# Altium integrated library TI_Logic_Flip-Flop,Latch,Register.IntLib: 2598 symbols (part 58 of 122)
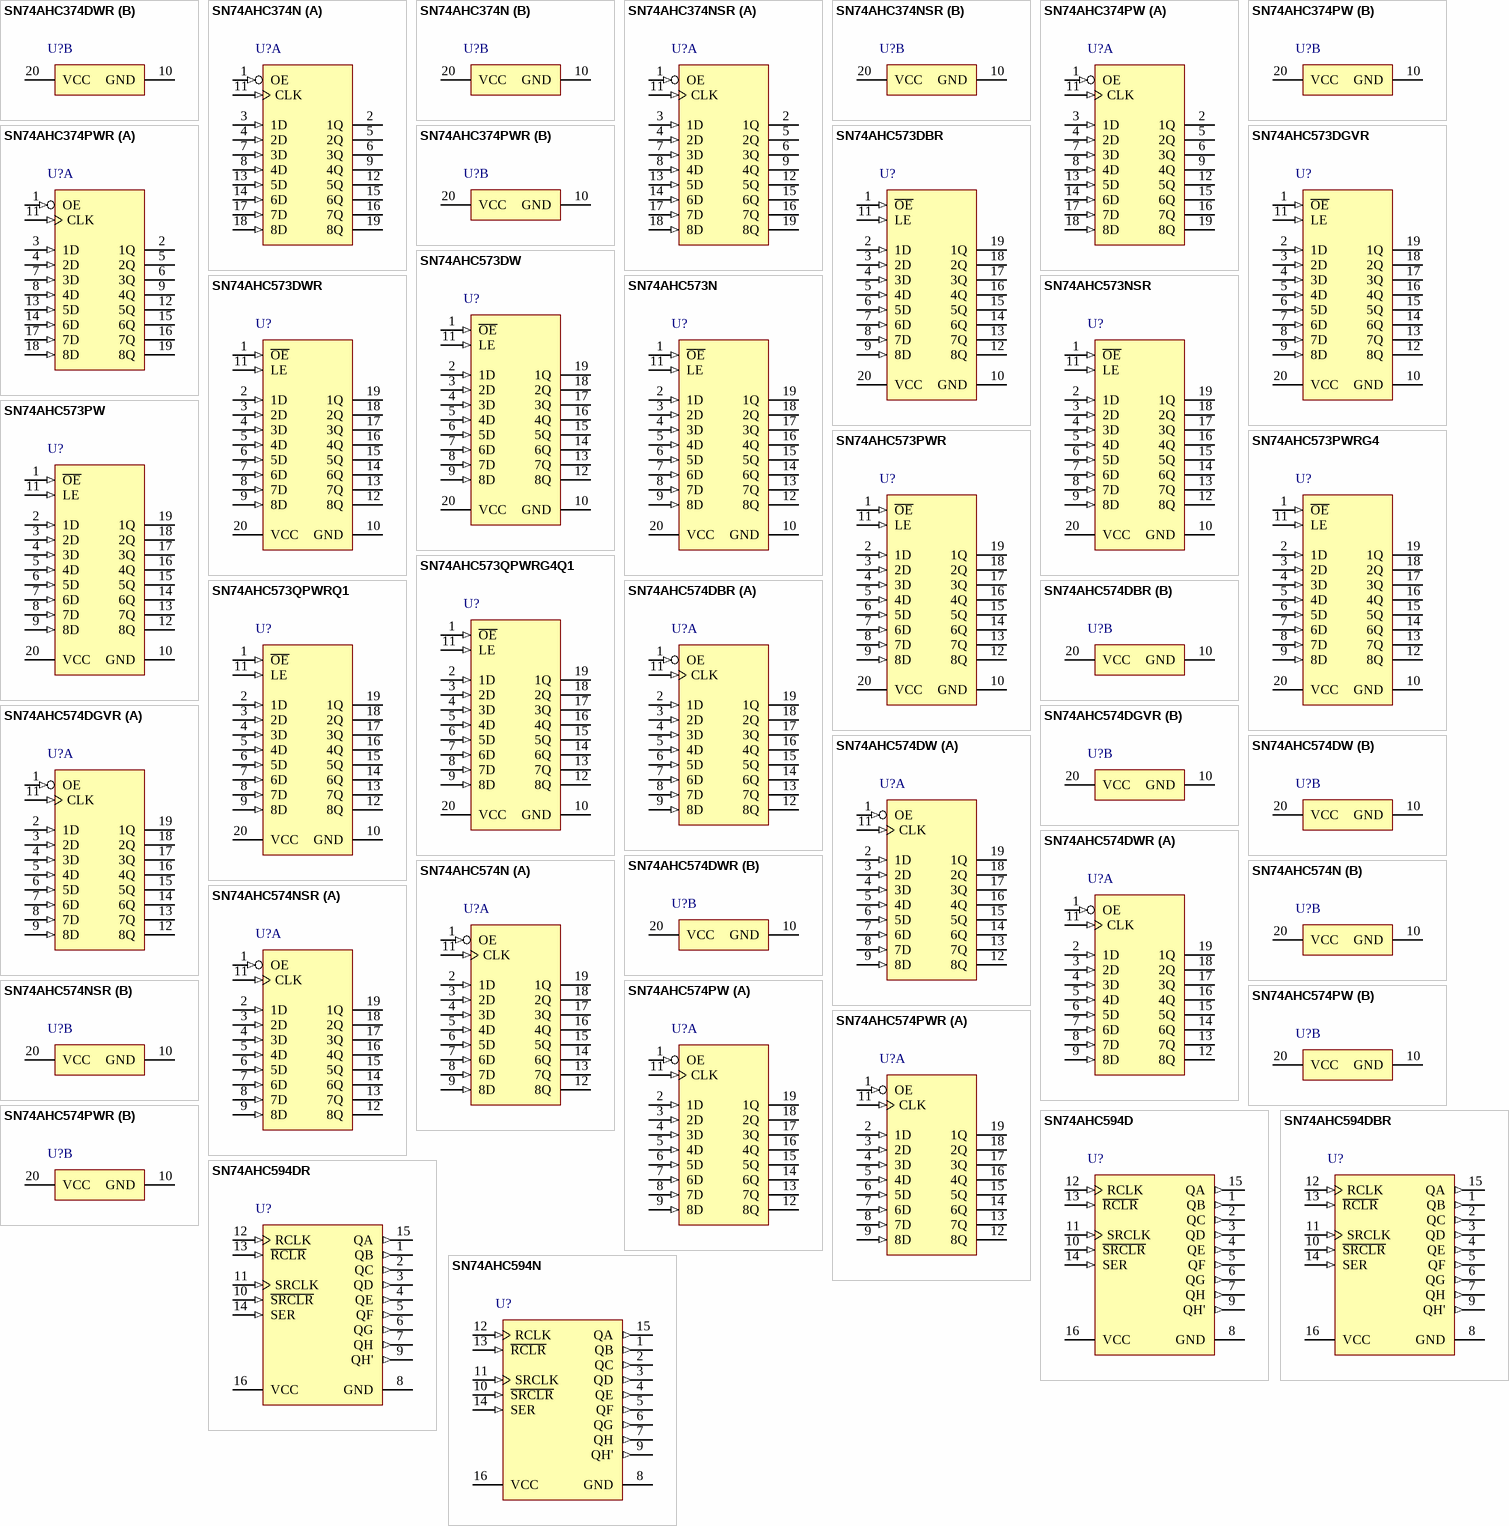
[diagram p196: symbols SN74AHC374DWR to SN74AHC594N]

## SN74AHC574NSR
designator U?
Octal Edge-Triggered D-Type Flip-Flops With 3-State Outputs, NS0020A, LARGE T&R; Generic Part Number: SN74AHC574; Manufacturer: Texas Instruments; PartNumber: SN74AHC574NSR; VCC(Min)(V): 2; VCC(Max)(V): 5.5; Output Type: CMOS; ICC @ Nom Voltage(Max)(mA): 0.04; Bits(#): 8; F @ Nom Voltage(Max)(Mhz): 110; Rating: Catalog; Technology Family: AHC; Voltage(Nom)(V): 3.3,5; Schmitt Trigger: No; Output Drive (IOL/IOH)(Max)(mA): 50/-50; Output Logic: Non-inverted; 3-State Output: Yes; tpd @ Nom Voltage(Max)(ns): 19,12; DatasheetVersion: SCLS244J; PackageReference: NS0020A; Supplier 1: Digi-Key; Supplier Part Number 1: SN74AHC574NSR-ND; Supplier 2: Mouser; Supplier Part Number 2: 595-SN74AHC574NSR; Input Type: CMOS; Operating Temperature Range(C): -40 to 125,-40 to 85; ComponentLink1Description: Manufacturer URL; ComponentLink1URL: http://www.ti.com/; ComponentLink2Description: Datasheet; ComponentLink2URL: http://www.ti.com/lit/ds/symlink/sn74ahc574.pdf; ComponentLink3Description: Package Specification; ComponentLink3URL: http://www.ti.com/lit/ml/msop002a/msop002a.pdf
footprint NS0020A_N (SOIC,20-Leads,Body 12.9x5.6mm,Pitch 1.27mm,IPC Medium Density)
footprint NS0020A_M (SOIC,20-Leads,Body 12.9x5.6mm,Pitch 1.27mm,IPC Low Density)
footprint NS0020A_L (SOIC,20-Leads,Body 12.9x5.6mm,Pitch 1.27mm,IPC High Density)
part A pins: 1 OE (in), 2 1D (in), 3 2D (in), 4 3D (in), 5 4D (in), 6 5D (in), 7 6D (in), 8 7D (in), 9 8D (in), 11 CLK (in), 12 8Q (hiz), 13 7Q (hiz), 14 6Q (hiz), 15 5Q (hiz), 16 4Q (hiz), 17 3Q (hiz), 18 2Q (hiz), 19 1Q (hiz)
part B pins: 10 GND (power), 20 VCC (power)

## SN74AHC574PW
designator U?
Octal Edge-Triggered D-Type Flip-Flops With 3-State Outputs, PW0020A, TUBE; Generic Part Number: SN74AHC574; Manufacturer: Texas Instruments; PartNumber: SN74AHC574PW; VCC(Min)(V): 2; VCC(Max)(V): 5.5; Output Type: CMOS; ICC @ Nom Voltage(Max)(mA): 0.04; Bits(#): 8; F @ Nom Voltage(Max)(Mhz): 110; Rating: Catalog; Technology Family: AHC; Voltage(Nom)(V): 3.3,5; Schmitt Trigger: No; Output Drive (IOL/IOH)(Max)(mA): 50/-50; Output Logic: Non-inverted; 3-State Output: Yes; tpd @ Nom Voltage(Max)(ns): 19,12; DatasheetVersion: SCLS244J; PackageReference: PW0020A; Supplier 1: Digi-Key; Supplier Part Number 1: 296-33680-5-ND; Supplier 2: Farnell; Supplier Part Number 2: 9590595; Supplier 3: Newark; Supplier Part Number 3: 98K0274; Supplier 4: Mouser; Supplier Part Number 4: 595-SN74AHC574PW; Input Type: CMOS; Operating Temperature Range(C): -40 to 125,-40 to 85; Code_JEDEC: MO-153; ComponentLink1Description: Manufacturer URL; ComponentLink1URL: http://www.ti.com/; ComponentLink2Description: Datasheet; ComponentLink2URL: http://www.ti.com/lit/ds/symlink/sn74ahc574.pdf; ComponentLink3Description: Package Specification; ComponentLink3URL: http://www.ti.com/lit/ml/mpds362/mpds362.pdf
footprint PW0020A_N (SOP, 20-Leads, Body 6.6x4.5mm, Pitch 0.65mm, IPC Medium Density)
footprint PW0020A_M (SOP, 20-Leads, Body 6.6x4.5mm, Pitch 0.65mm, IPC Low Density)
footprint PW0020A_L (SOP, 20-Leads, Body 6.6x4.5mm, Pitch 0.65mm, IPC High Density)
part A pins: 1 OE (in), 2 1D (in), 3 2D (in), 4 3D (in), 5 4D (in), 6 5D (in), 7 6D (in), 8 7D (in), 9 8D (in), 11 CLK (in), 12 8Q (hiz), 13 7Q (hiz), 14 6Q (hiz), 15 5Q (hiz), 16 4Q (hiz), 17 3Q (hiz), 18 2Q (hiz), 19 1Q (hiz)
part B pins: 10 GND (power), 20 VCC (power)

## SN74AHC574PWR
designator U?
Octal Edge-Triggered D-Type Flip-Flops With 3-State Outputs, PW0020A, LARGE T&R; Generic Part Number: SN74AHC574; Manufacturer: Texas Instruments; PartNumber: SN74AHC574PWR; VCC(Min)(V): 2; VCC(Max)(V): 5.5; Output Type: CMOS; ICC @ Nom Voltage(Max)(mA): 0.04; Bits(#): 8; F @ Nom Voltage(Max)(Mhz): 110; Rating: Catalog; Technology Family: AHC; Voltage(Nom)(V): 3.3,5; Schmitt Trigger: No; Output Drive (IOL/IOH)(Max)(mA): 50/-50; Output Logic: Non-inverted; 3-State Output: Yes; tpd @ Nom Voltage(Max)(ns): 19,12; DatasheetVersion: SCLS244J; PackageReference: PW0020A; Supplier 1: Digi-Key; Supplier Part Number 1: 296-4617-2-ND; Supplier 2: Digi-Key; Supplier Part Number 2: 296-4617-1-ND; Supplier 3: Digi-Key; Supplier Part Number 3: 296-4617-6-ND; Supplier 4: Mouser; Supplier Part Number 4: 595-SN74AHC574PWR; Input Type: CMOS; Operating Temperature Range(C): -40 to 125,-40 to 85; Code_JEDEC: MO-153; ComponentLink1Description: Manufacturer URL; ComponentLink1URL: http://www.ti.com/; ComponentLink2Description: Datasheet; ComponentLink2URL: http://www.ti.com/lit/ds/symlink/sn74ahc574.pdf; ComponentLink3Description: Package Specification; ComponentLink3URL: http://www.ti.com/lit/ml/mpds362/mpds362.pdf
footprint PW0020A_N (SOP, 20-Leads, Body 6.6x4.5mm, Pitch 0.65mm, IPC Medium Density)
footprint PW0020A_M (SOP, 20-Leads, Body 6.6x4.5mm, Pitch 0.65mm, IPC Low Density)
footprint PW0020A_L (SOP, 20-Leads, Body 6.6x4.5mm, Pitch 0.65mm, IPC High Density)
part A pins: 1 OE (in), 2 1D (in), 3 2D (in), 4 3D (in), 5 4D (in), 6 5D (in), 7 6D (in), 8 7D (in), 9 8D (in), 11 CLK (in), 12 8Q (hiz), 13 7Q (hiz), 14 6Q (hiz), 15 5Q (hiz), 16 4Q (hiz), 17 3Q (hiz), 18 2Q (hiz), 19 1Q (hiz)
part B pins: 10 GND (power), 20 VCC (power)

## SN74AHC594D
designator U?
8-Bit Shift Registers With Output Registers, D0016A, TUBE; Generic Part Number: SN74AHC594; Manufacturer: Texas Instruments; PartNumber: SN74AHC594D; Technology Family: AHC; VCC(Min)(V): 2; VCC(Max)(V): 5.5; Voltage(Nom)(V): 3.3, 5; F @ Nom Voltage(Max)(Mhz): 110; ICC @ Nom Voltage(Max)(mA): 0.04; tpd @ Nom Voltage(Max)(ns): 13.9, 10.1; Output Drive (IOL/IOH)(Max)(mA): 50/-50; Input Type: CMOS; 3-State Output: No; Rating: Catalog; Bits: 8; DatasheetVersion: SCLS423G; PackageReference: D0016A; Output Type: CMOS; Operating Temperature Range(C): -40 to 125; Code_JEDEC: MS-012 variation AC; ComponentLink1Description: Manufacturer URL; ComponentLink1URL: http://www.ti.com/; ComponentLink2Description: Datasheet; ComponentLink2URL: http://www.ti.com/lit/ds/symlink/sn74ahc594.pdf; ComponentLink3Description: Package Specification; ComponentLink3URL: http://www.ti.com/lit/ml/mpds178g/mpds178g.pdf
footprint D0016A_N (SOIC, 16-Leads, Body 10x4mm, Pitch 1.27mm, IPC Medium Density)
footprint D0016A_M (SOIC, 16-Leads, Body 10x4mm, Pitch 1.27mm, IPC Low Density)
footprint D0016A_L (SOIC, 16-Leads, Body 10x4mm, Pitch 1.27mm, IPC High Density)
pins: 1 QB (out) "QB Output", 2 QC (out) "QC Output", 3 QD (out) "QD Output", 4 QE (out) "QE Output", 5 QF (out) "QF Output", 6 QG (out) "QG Output", 7 QH (out) "QH Output", 8 GND (power) "Ground Pin", 9 QH' (out) "QH' Output", 10 ~{SRCLR} (in) "S\R\C\L\R\ Input", 11 SRCLK (in) "SRCLK Input", 12 RCLK (in) "RCLK Input", 13 ~{RCLR} (in) "R\C\L\R\ Input", 14 SER (in) "SER Input", 15 QA (out) "QA Output", 16 VCC (power) "Power pin"

## SN74AHC594DBR
designator U?
8-Bit Shift Registers With Output Registers, DB0016A, LARGE T&R; Generic Part Number: SN74AHC594; Manufacturer: Texas Instruments; PartNumber: SN74AHC594DBR; Technology Family: AHC; VCC(Min)(V): 2; VCC(Max)(V): 5.5; Voltage(Nom)(V): 3.3, 5; F @ Nom Voltage(Max)(Mhz): 110; ICC @ Nom Voltage(Max)(mA): 0.04; tpd @ Nom Voltage(Max)(ns): 13.9, 10.1; Output Drive (IOL/IOH)(Max)(mA): 50/-50; Input Type: CMOS; 3-State Output: No; Rating: Catalog; DatasheetVersion: SCLS423G; PackageReference: DB0016A; Output Type: CMOS; Operating Temperature Range(C): -40 to 125; Code_JEDEC: MO-150; ComponentLink1Description: Manufacturer URL; ComponentLink1URL: http://www.ti.com/; ComponentLink2Description: Datasheet; ComponentLink2URL: http://www.ti.com/lit/ds/symlink/sn74ahc594.pdf; ComponentLink3Description: Package Specification; ComponentLink3URL: http://www.ti.com/lit/ml/mpds507/mpds507.pdf
footprint DB0016A_N (SOP, 16-Leads, Body 5.6x6.5mm, Pitch 0.65mm, IPC Medium Density)
footprint DB0016A_M (SOP, 16-Leads, Body 5.6x6.5mm, Pitch 0.65mm, IPC Low Density)
footprint DB0016A_L (SOP, 16-Leads, Body 5.6x6.5mm, Pitch 0.65mm, IPC High Density)
pins: 1 QB (out) "QB Output", 2 QC (out) "QC Output", 3 QD (out) "QD Output", 4 QE (out) "QE Output", 5 QF (out) "QF Output", 6 QG (out) "QG Output", 7 QH (out) "QH Output", 8 GND (power) "Ground Pin", 9 QH' (out) "QH' Output", 10 ~{SRCLR} (in) "S\R\C\L\R\ Input", 11 SRCLK (in) "SRCLK Input", 12 RCLK (in) "RCLK Input", 13 ~{RCLR} (in) "R\C\L\R\ Input", 14 SER (in) "SER Input", 15 QA (out) "QA Output", 16 VCC (power) "Power pin"

## SN74AHC594DR
designator U?
8-Bit Shift Registers With Output Registers, D0016A, LARGE T&R; Generic Part Number: SN74AHC594; Manufacturer: Texas Instruments; PartNumber: SN74AHC594DR; Technology Family: AHC; VCC(Min)(V): 2; VCC(Max)(V): 5.5; Voltage(Nom)(V): 3.3, 5; F @ Nom Voltage(Max)(Mhz): 110; ICC @ Nom Voltage(Max)(mA): 0.04; tpd @ Nom Voltage(Max)(ns): 13.9, 10.1; Output Drive (IOL/IOH)(Max)(mA): 50/-50; Input Type: CMOS; 3-State Output: No; Rating: Catalog; Bits: 8; DatasheetVersion: SCLS423G; PackageReference: D0016A; Output Type: CMOS; Operating Temperature Range(C): -40 to 125; Code_JEDEC: MS-012 variation AC; ComponentLink1Description: Manufacturer URL; ComponentLink1URL: http://www.ti.com/; ComponentLink2Description: Datasheet; ComponentLink2URL: http://www.ti.com/lit/ds/symlink/sn74ahc594.pdf; ComponentLink3Description: Package Specification; ComponentLink3URL: http://www.ti.com/lit/ml/mpds178g/mpds178g.pdf
footprint D0016A_N (SOIC, 16-Leads, Body 10x4mm, Pitch 1.27mm, IPC Medium Density)
footprint D0016A_M (SOIC, 16-Leads, Body 10x4mm, Pitch 1.27mm, IPC Low Density)
footprint D0016A_L (SOIC, 16-Leads, Body 10x4mm, Pitch 1.27mm, IPC High Density)
pins: 1 QB (out) "QB Output", 2 QC (out) "QC Output", 3 QD (out) "QD Output", 4 QE (out) "QE Output", 5 QF (out) "QF Output", 6 QG (out) "QG Output", 7 QH (out) "QH Output", 8 GND (power) "Ground Pin", 9 QH' (out) "QH' Output", 10 ~{SRCLR} (in) "S\R\C\L\R\ Input", 11 SRCLK (in) "SRCLK Input", 12 RCLK (in) "RCLK Input", 13 ~{RCLR} (in) "R\C\L\R\ Input", 14 SER (in) "SER Input", 15 QA (out) "QA Output", 16 VCC (power) "Power pin"

## SN74AHC594N
designator U?
8-Bit Shift Registers With Output Registers, N0016A, TUBE; Generic Part Number: SN74AHC594; Manufacturer: Texas Instruments; PartNumber: SN74AHC594N; Technology Family: AHC; VCC(Min)(V): 2; VCC(Max)(V): 5.5; Voltage(Nom)(V): 3.3, 5; F @ Nom Voltage(Max)(Mhz): 110; ICC @ Nom Voltage(Max)(mA): 0.04; tpd @ Nom Voltage(Max)(ns): 13.9, 10.1; Output Drive (IOL/IOH)(Max)(mA): 50/-50; Input Type: CMOS; 3-State Output: No; Rating: Catalog; Bits: 8; DatasheetVersion: SCLS423G; PackageReference: N0016A; Output Type: CMOS; Operating Temperature Range(C): -40 to 125; Code_JEDEC: MS-001; ComponentLink1Description: Manufacturer URL; ComponentLink1URL: http://www.ti.com/; ComponentLink2Description: Datasheet; ComponentLink2URL: http://www.ti.com/lit/ds/symlink/sn74ahc594.pdf; ComponentLink3Description: Package Specification; ComponentLink3URL: http://www.ti.com/lit/ml/mpdi002c/mpdi002c.pdf
footprint N0016A (DIP, 16-Leads, Body 19.7x6.6mm, Pitch 2.54mm)
pins: 1 QB (out) "QB Output", 2 QC (out) "QC Output", 3 QD (out) "QD Output", 4 QE (out) "QE Output", 5 QF (out) "QF Output", 6 QG (out) "QG Output", 7 QH (out) "QH Output", 8 GND (power) "Ground Pin", 9 QH' (out) "QH' Output", 10 ~{SRCLR} (in) "S\R\C\L\R\ Input", 11 SRCLK (in) "SRCLK Input", 12 RCLK (in) "RCLK Input", 13 ~{RCLR} (in) "R\C\L\R\ Input", 14 SER (in) "SER Input", 15 QA (out) "QA Output", 16 VCC (power) "Power pin"

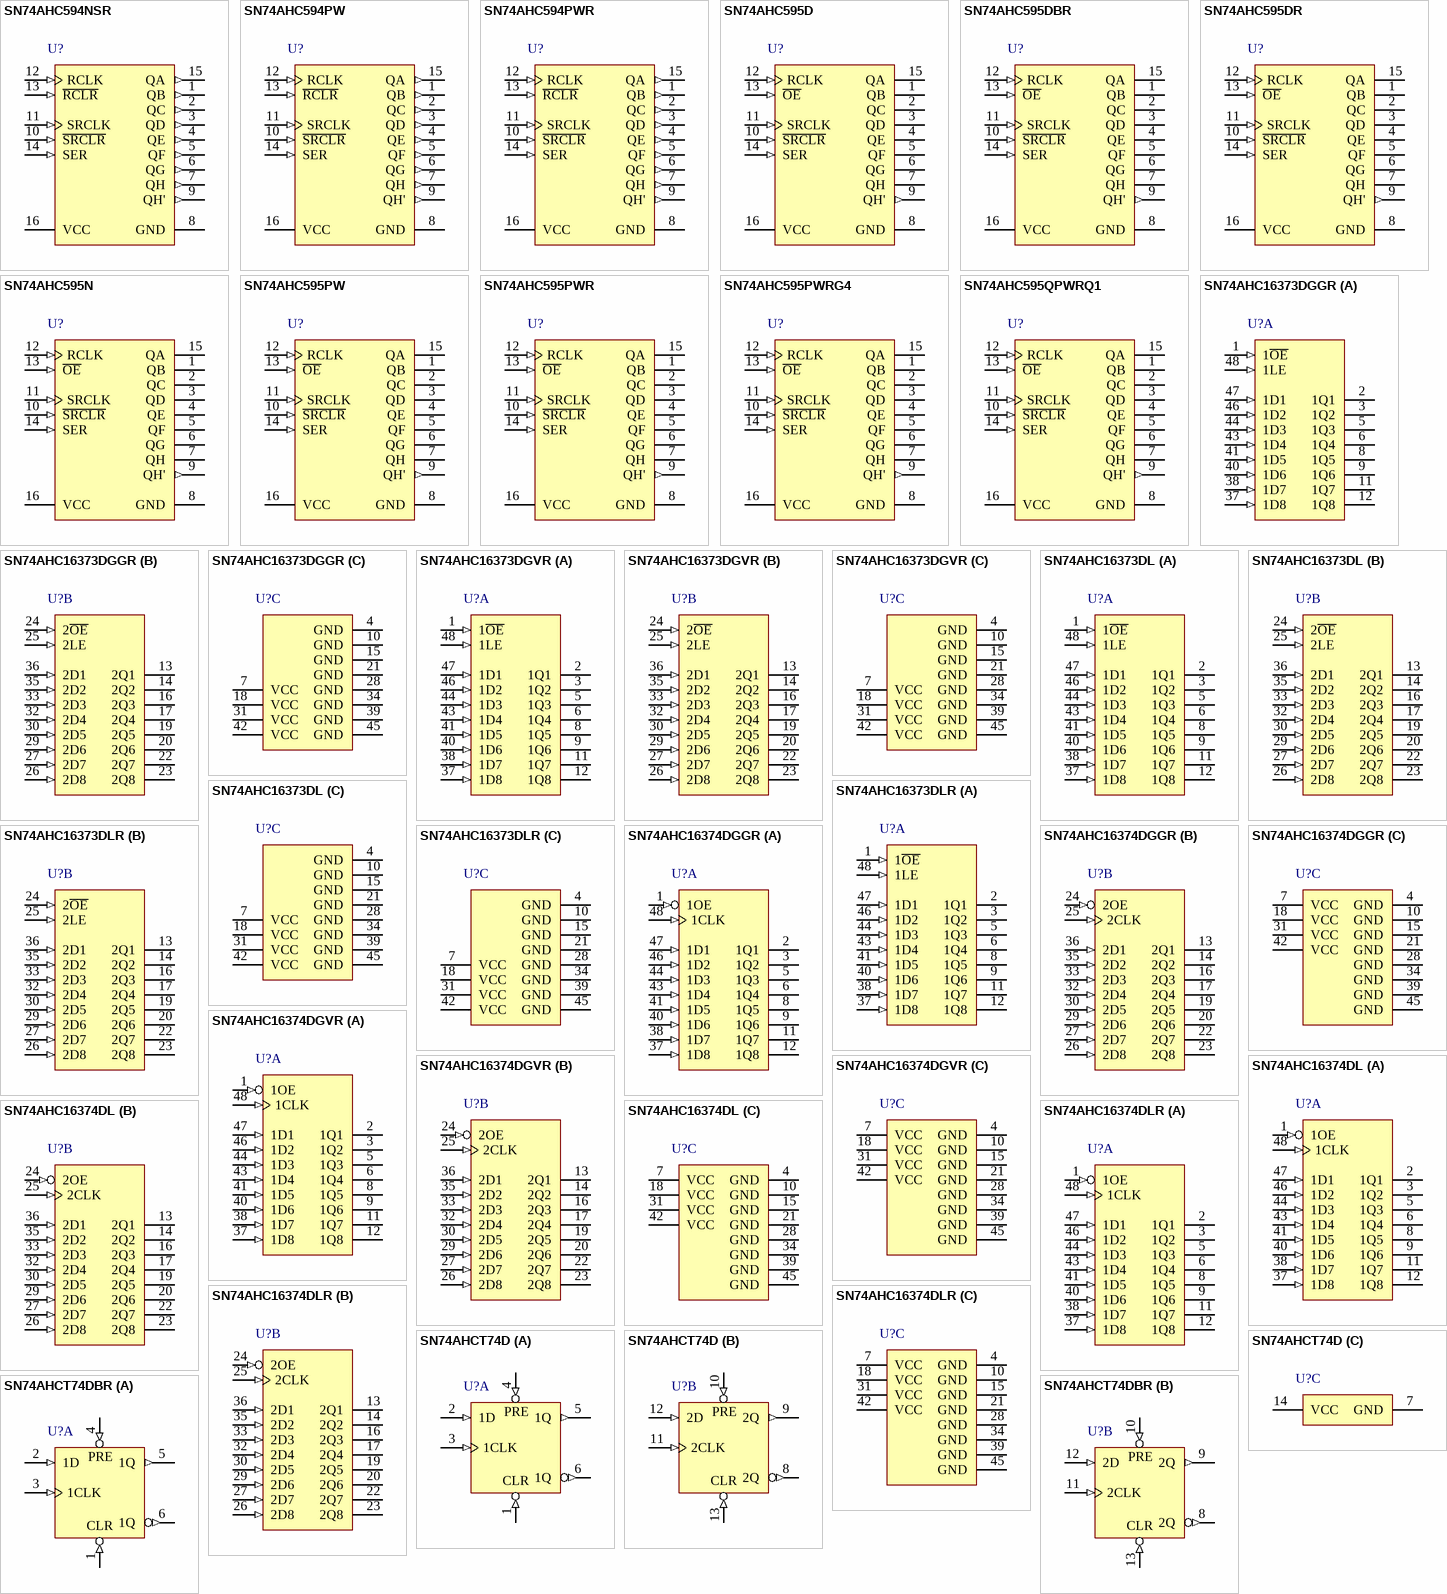
[diagram p67: symbols SN74AHC594NSR to SN74AHCT74DBR]

## SN74AHC594NSR
designator U?
8-Bit Shift Registers With Output Registers, NS0016A, LARGE T&R; Generic Part Number: SN74AHC594; Manufacturer: Texas Instruments; PartNumber: SN74AHC594NSR; Technology Family: AHC; VCC(Min)(V): 2; VCC(Max)(V): 5.5; Voltage(Nom)(V): 3.3, 5; F @ Nom Voltage(Max)(Mhz): 110; ICC @ Nom Voltage(Max)(mA): 0.04; tpd @ Nom Voltage(Max)(ns): 13.9, 10.1; Output Drive (IOL/IOH)(Max)(mA): 50/-50; Input Type: CMOS; 3-State Output: No; Rating: Catalog; Bits: 8; DatasheetVersion: SCLS423G; PackageReference: NS0016A; Output Type: CMOS; Operating Temperature Range(C): -40 to 125; ComponentLink1Description: Manufacturer URL; ComponentLink1URL: http://www.ti.com/; ComponentLink2Description: Datasheet; ComponentLink2URL: http://www.ti.com/lit/ds/symlink/sn74ahc594.pdf; ComponentLink3Description: Package Specification; ComponentLink3URL: http://www.ti.com/lit/ml/msop002a/msop002a.pdf
footprint NS0016A_N (SOIC,16-Leads,Body 10.5x5.6mm,Pitch 1.27mm,IPC Medium Density)
footprint NS0016A_M (SOIC,16-Leads,Body 10.5x5.6mm,Pitch 1.27mm,IPC Low Density)
footprint NS0016A_L (SOIC,16-Leads,Body 10.5x5.6mm,Pitch 1.27mm,IPC High Density)
pins: 1 QB (out) "QB Output", 2 QC (out) "QC Output", 3 QD (out) "QD Output", 4 QE (out) "QE Output", 5 QF (out) "QF Output", 6 QG (out) "QG Output", 7 QH (out) "QH Output", 8 GND (power) "Ground Pin", 9 QH' (out) "QH' Output", 10 ~{SRCLR} (in) "S\R\C\L\R\ Input", 11 SRCLK (in) "SRCLK Input", 12 RCLK (in) "RCLK Input", 13 ~{RCLR} (in) "R\C\L\R\ Input", 14 SER (in) "SER Input", 15 QA (out) "QA Output", 16 VCC (power) "Power pin"

## SN74AHC594PW
designator U?
8-Bit Shift Registers With Output Registers, PW0016A, TUBE; Generic Part Number: SN74AHC594; Manufacturer: Texas Instruments; PartNumber: SN74AHC594PW; Technology Family: AHC; VCC(Min)(V): 2; VCC(Max)(V): 5.5; Voltage(Nom)(V): 3.3, 5; F @ Nom Voltage(Max)(Mhz): 110; ICC @ Nom Voltage(Max)(mA): 0.04; tpd @ Nom Voltage(Max)(ns): 13.9, 10.1; Output Drive (IOL/IOH)(Max)(mA): 50/-50; Input Type: CMOS; 3-State Output: No; Rating: Catalog; Bits: 8; DatasheetVersion: SCLS423G; PackageReference: PW0016A; Output Type: CMOS; Operating Temperature Range(C): -40 to 125; Code_JEDEC: MO-153; ComponentLink1Description: Manufacturer URL; ComponentLink1URL: http://www.ti.com/; ComponentLink2Description: Datasheet; ComponentLink2URL: http://www.ti.com/lit/ds/symlink/sn74ahc594.pdf; ComponentLink3Description: Package Specification; ComponentLink3URL: http://www.ti.com/lit/ml/mpds361/mpds361.pdf
footprint PW0016A_N (SOP, 16-Leads, Body 5.1x4.5mm, Pitch 0.65mm, IPC Medium Density)
footprint PW0016A_M (SOP, 16-Leads, Body 5.1x4.5mm, Pitch 0.65mm, IPC Low Density)
footprint PW0016A_L (SOP, 16-Leads, Body 5.1x4.5mm, Pitch 0.65mm, IPC High Density)
pins: 1 QB (out) "QB Output", 2 QC (out) "QC Output", 3 QD (out) "QD Output", 4 QE (out) "QE Output", 5 QF (out) "QF Output", 6 QG (out) "QG Output", 7 QH (out) "QH Output", 8 GND (power) "Ground Pin", 9 QH' (out) "QH' Output", 10 ~{SRCLR} (in) "S\R\C\L\R\ Input", 11 SRCLK (in) "SRCLK Input", 12 RCLK (in) "RCLK Input", 13 ~{RCLR} (in) "R\C\L\R\ Input", 14 SER (in) "SER Input", 15 QA (out) "QA Output", 16 VCC (power) "Power pin"

## SN74AHC594PWR
designator U?
8-Bit Shift Registers With Output Registers, PW0016A, LARGE T&R; Generic Part Number: SN74AHC594; Manufacturer: Texas Instruments; PartNumber: SN74AHC594PWR; Technology Family: AHC; VCC(Min)(V): 2; VCC(Max)(V): 5.5; Voltage(Nom)(V): 3.3, 5; F @ Nom Voltage(Max)(Mhz): 110; ICC @ Nom Voltage(Max)(mA): 0.04; tpd @ Nom Voltage(Max)(ns): 13.9, 10.1; Output Drive (IOL/IOH)(Max)(mA): 50/-50; Input Type: CMOS; 3-State Output: No; Rating: Catalog; Bits: 8; DatasheetVersion: SCLS423G; PackageReference: PW0016A; Output Type: CMOS; Operating Temperature Range(C): -40 to 125; Code_JEDEC: MO-153; ComponentLink1Description: Manufacturer URL; ComponentLink1URL: http://www.ti.com/; ComponentLink2Description: Datasheet; ComponentLink2URL: http://www.ti.com/lit/ds/symlink/sn74ahc594.pdf; ComponentLink3Description: Package Specification; ComponentLink3URL: http://www.ti.com/lit/ml/mpds361/mpds361.pdf
footprint PW0016A_N (SOP, 16-Leads, Body 5.1x4.5mm, Pitch 0.65mm, IPC Medium Density)
footprint PW0016A_M (SOP, 16-Leads, Body 5.1x4.5mm, Pitch 0.65mm, IPC Low Density)
footprint PW0016A_L (SOP, 16-Leads, Body 5.1x4.5mm, Pitch 0.65mm, IPC High Density)
pins: 1 QB (out) "QB Output", 2 QC (out) "QC Output", 3 QD (out) "QD Output", 4 QE (out) "QE Output", 5 QF (out) "QF Output", 6 QG (out) "QG Output", 7 QH (out) "QH Output", 8 GND (power) "Ground Pin", 9 QH' (out) "QH' Output", 10 ~{SRCLR} (in) "S\R\C\L\R\ Input", 11 SRCLK (in) "SRCLK Input", 12 RCLK (in) "RCLK Input", 13 ~{RCLR} (in) "R\C\L\R\ Input", 14 SER (in) "SER Input", 15 QA (out) "QA Output", 16 VCC (power) "Power pin"

## SN74AHC595D
designator U?
8-Bit Shift Registers With 3-State Output Registers, D0016A, TUBE; Generic Part Number: SN74AHC595; Manufacturer: Texas Instruments; PartNumber: SN74AHC595D; Technology Family: AHC; VCC(Min)(V): 2; VCC(Max)(V): 5.5; Voltage(Nom)(V): 3.3, 5; F @ Nom Voltage(Max)(Mhz): 110; ICC @ Nom Voltage(Max)(mA): 0.04; tpd @ Nom Voltage(Max)(ns): 20, 11.4; Output Drive (IOL/IOH)(Max)(mA): 50/-50; Input Type: CMOS; 3-State Output: Yes; Rating: Catalog; Bits: 8; DatasheetVersion: SCLS373J; PackageReference: D0016A; Output Type: CMOS; Operating Temperature Range(C): -40 to 125; Code_JEDEC: MS-012 variation AC; ComponentLink1Description: Manufacturer URL; ComponentLink1URL: http://www.ti.com/; ComponentLink2Description: Datasheet; ComponentLink2URL: http://www.ti.com/lit/ds/symlink/sn74ahc595.pdf; ComponentLink3Description: Package Specification; ComponentLink3URL: http://www.ti.com/lit/ml/mpds178g/mpds178g.pdf
footprint D0016A_N (SOIC, 16-Leads, Body 10x4mm, Pitch 1.27mm, IPC Medium Density)
footprint D0016A_M (SOIC, 16-Leads, Body 10x4mm, Pitch 1.27mm, IPC Low Density)
footprint D0016A_L (SOIC, 16-Leads, Body 10x4mm, Pitch 1.27mm, IPC High Density)
pins: 1 QB (hiz) "QB Output", 2 QC (hiz) "QC Output", 3 QD (hiz) "QD Output", 4 QE (hiz) "QE Output", 5 QF (hiz) "QF Output", 6 QG (hiz) "QG Output", 7 QH (hiz) "QH Output", 8 GND (power) "Ground Pin", 9 QH' (out) "QH' Output", 10 ~{SRCLR} (in) "S\R\C\L\R\ Input", 11 SRCLK (in) "SRCLK Input", 12 RCLK (in) "RCLK Input", 13 ~{OE} (in) "Output Enable Pin", 14 SER (in) "SER Input", 15 QA (hiz) "QA Output", 16 VCC (power) "Power Pin"

## SN74AHC595DBR
designator U?
8-Bit Shift Registers With 3-State Output Registers, DB0016A, LARGE T&R; Generic Part Number: SN74AHC595; Manufacturer: Texas Instruments; PartNumber: SN74AHC595DBR; Technology Family: AHC; VCC(Min)(V): 2; VCC(Max)(V): 5.5; Voltage(Nom)(V): 3.3, 5; F @ Nom Voltage(Max)(Mhz): 110; ICC @ Nom Voltage(Max)(mA): 0.04; tpd @ Nom Voltage(Max)(ns): 20, 11.4; Output Drive (IOL/IOH)(Max)(mA): 50/-50; Input Type: CMOS; 3-State Output: Yes; Rating: Catalog; Bits: 8; DatasheetVersion: SCLS373J; PackageReference: DB0016A; Output Type: CMOS; Operating Temperature Range(C): -40 to 125; Code_JEDEC: MO-150; ComponentLink1Description: Manufacturer URL; ComponentLink1URL: http://www.ti.com/; ComponentLink2Description: Datasheet; ComponentLink2URL: http://www.ti.com/lit/ds/symlink/sn74ahc595.pdf; ComponentLink3Description: Package Specification; ComponentLink3URL: http://www.ti.com/lit/ml/mpds507/mpds507.pdf
footprint DB0016A_N (SOP, 16-Leads, Body 5.6x6.5mm, Pitch 0.65mm, IPC Medium Density)
footprint DB0016A_M (SOP, 16-Leads, Body 5.6x6.5mm, Pitch 0.65mm, IPC Low Density)
footprint DB0016A_L (SOP, 16-Leads, Body 5.6x6.5mm, Pitch 0.65mm, IPC High Density)
pins: 1 QB (hiz) "QB Output", 2 QC (hiz) "QC Output", 3 QD (hiz) "QD Output", 4 QE (hiz) "QE Output", 5 QF (hiz) "QF Output", 6 QG (hiz) "QG Output", 7 QH (hiz) "QH Output", 8 GND (power) "Ground Pin", 9 QH' (out) "QH' Output", 10 ~{SRCLR} (in) "S\R\C\L\R\ Input", 11 SRCLK (in) "SRCLK Input", 12 RCLK (in) "RCLK Input", 13 ~{OE} (in) "Output Enable Pin", 14 SER (in) "SER Input", 15 QA (hiz) "QA Output", 16 VCC (power) "Power Pin"

## SN74AHC595DR
designator U?
8-Bit Shift Registers With 3-State Output Registers, D0016A, LARGE T&R; Generic Part Number: SN74AHC595; Manufacturer: Texas Instruments; PartNumber: SN74AHC595DR; Technology Family: AHC; VCC(Min)(V): 2; VCC(Max)(V): 5.5; Voltage(Nom)(V): 3.3, 5; F @ Nom Voltage(Max)(Mhz): 110; ICC @ Nom Voltage(Max)(mA): 0.04; tpd @ Nom Voltage(Max)(ns): 20, 11.4; Output Drive (IOL/IOH)(Max)(mA): 50/-50; Input Type: CMOS; 3-State Output: Yes; Rating: Catalog; Bits: 8; DatasheetVersion: SCLS373J; PackageReference: D0016A; Output Type: CMOS; Operating Temperature Range(C): -40 to 125; Code_JEDEC: MS-012 variation AC; ComponentLink1Description: Manufacturer URL; ComponentLink1URL: http://www.ti.com/; ComponentLink2Description: Datasheet; ComponentLink2URL: http://www.ti.com/lit/ds/symlink/sn74ahc595.pdf; ComponentLink3Description: Package Specification; ComponentLink3URL: http://www.ti.com/lit/ml/mpds178g/mpds178g.pdf
footprint D0016A_N (SOIC, 16-Leads, Body 10x4mm, Pitch 1.27mm, IPC Medium Density)
footprint D0016A_M (SOIC, 16-Leads, Body 10x4mm, Pitch 1.27mm, IPC Low Density)
footprint D0016A_L (SOIC, 16-Leads, Body 10x4mm, Pitch 1.27mm, IPC High Density)
pins: 1 QB (hiz) "QB Output", 2 QC (hiz) "QC Output", 3 QD (hiz) "QD Output", 4 QE (hiz) "QE Output", 5 QF (hiz) "QF Output", 6 QG (hiz) "QG Output", 7 QH (hiz) "QH Output", 8 GND (power) "Ground Pin", 9 QH' (out) "QH' Output", 10 ~{SRCLR} (in) "S\R\C\L\R\ Input", 11 SRCLK (in) "SRCLK Input", 12 RCLK (in) "RCLK Input", 13 ~{OE} (in) "Output Enable Pin", 14 SER (in) "SER Input", 15 QA (hiz) "QA Output", 16 VCC (power) "Power Pin"

## SN74AHC595N
designator U?
8-Bit Shift Registers With 3-State Output Registers, N0016A, TUBE; Generic Part Number: SN74AHC595; Manufacturer: Texas Instruments; PartNumber: SN74AHC595N; Technology Family: AHC; VCC(Min)(V): 2; VCC(Max)(V): 5.5; Voltage(Nom)(V): 3.3, 5; F @ Nom Voltage(Max)(Mhz): 110; ICC @ Nom Voltage(Max)(mA): 0.04; tpd @ Nom Voltage(Max)(ns): 20, 11.4; Output Drive (IOL/IOH)(Max)(mA): 50/-50; Input Type: CMOS; 3-State Output: Yes; Rating: Catalog; Bits: 8; DatasheetVersion: SCLS373J; PackageReference: N0016A; Output Type: CMOS; Operating Temperature Range(C): -40 to 125; Code_JEDEC: MS-001; ComponentLink1Description: Manufacturer URL; ComponentLink1URL: http://www.ti.com/; ComponentLink2Description: Datasheet; ComponentLink2URL: http://www.ti.com/lit/ds/symlink/sn74ahc595.pdf; ComponentLink3Description: Package Specification; ComponentLink3URL: http://www.ti.com/lit/ml/mpdi002c/mpdi002c.pdf
footprint N0016A (DIP, 16-Leads, Body 19.7x6.6mm, Pitch 2.54mm)
pins: 1 QB (hiz) "QB Output", 2 QC (hiz) "QC Output", 3 QD (hiz) "QD Output", 4 QE (hiz) "QE Output", 5 QF (hiz) "QF Output", 6 QG (hiz) "QG Output", 7 QH (hiz) "QH Output", 8 GND (power) "Ground Pin", 9 QH' (out) "QH' Output", 10 ~{SRCLR} (in) "S\R\C\L\R\ Input", 11 SRCLK (in) "SRCLK Input", 12 RCLK (in) "RCLK Input", 13 ~{OE} (in) "Output Enable Pin", 14 SER (in) "SER Input", 15 QA (hiz) "QA Output", 16 VCC (power) "Power Pin"

## SN74AHC595PW
designator U?
8-Bit Shift Registers With 3-State Output Registers, PW0016A, TUBE; Generic Part Number: SN74AHC595; Manufacturer: Texas Instruments; PartNumber: SN74AHC595PW; Technology Family: AHC; VCC(Min)(V): 2; VCC(Max)(V): 5.5; Voltage(Nom)(V): 3.3, 5; F @ Nom Voltage(Max)(Mhz): 110; ICC @ Nom Voltage(Max)(mA): 0.04; tpd @ Nom Voltage(Max)(ns): 20, 11.4; Output Drive (IOL/IOH)(Max)(mA): 50/-50; Input Type: CMOS; 3-State Output: Yes; Rating: Catalog; Bits: 8; DatasheetVersion: SCLS373J; PackageReference: PW0016A; Output Type: CMOS; Operating Temperature Range(C): -40 to 125; Code_JEDEC: MO-153; ComponentLink1Description: Manufacturer URL; ComponentLink1URL: http://www.ti.com/; ComponentLink2Description: Datasheet; ComponentLink2URL: http://www.ti.com/lit/ds/symlink/sn74ahc595.pdf; ComponentLink3Description: Package Specification; ComponentLink3URL: http://www.ti.com/lit/ml/mpds361/mpds361.pdf
footprint PW0016A_N (SOP, 16-Leads, Body 5.1x4.5mm, Pitch 0.65mm, IPC Medium Density)
footprint PW0016A_M (SOP, 16-Leads, Body 5.1x4.5mm, Pitch 0.65mm, IPC Low Density)
footprint PW0016A_L (SOP, 16-Leads, Body 5.1x4.5mm, Pitch 0.65mm, IPC High Density)
pins: 1 QB (hiz), 2 QC (hiz), 3 QD (hiz), 4 QE (hiz), 5 QF (hiz), 6 QG (hiz), 7 QH (hiz), 8 GND (power), 9 QH' (out), 10 ~{SRCLR} (in), 11 SRCLK (in), 12 RCLK (in), 13 ~{OE} (in), 14 SER (in), 15 QA (hiz), 16 VCC (power)

## SN74AHC595PWR
designator U?
8-Bit Shift Registers With 3-State Output Registers, PW0016A, LARGE T&R; Generic Part Number: SN74AHC595; Manufacturer: Texas Instruments; PartNumber: SN74AHC595PWR; Technology Family: AHC; VCC(Min)(V): 2; VCC(Max)(V): 5.5; Voltage(Nom)(V): 3.3, 5; F @ Nom Voltage(Max)(Mhz): 110; ICC @ Nom Voltage(Max)(mA): 0.04; tpd @ Nom Voltage(Max)(ns): 20, 11.4; Output Drive (IOL/IOH)(Max)(mA): 50/-50; Input Type: CMOS; 3-State Output: Yes; Rating: Catalog; Bits: 8; DatasheetVersion: SCLS373J; PackageReference: PW0016A; Output Type: CMOS; Operating Temperature Range(C): -40 to 125; Code_JEDEC: MO-153; ComponentLink1Description: Manufacturer URL; ComponentLink1URL: http://www.ti.com/; ComponentLink2Description: Datasheet; ComponentLink2URL: http://www.ti.com/lit/ds/symlink/sn74ahc595.pdf; ComponentLink3Description: Package Specification; ComponentLink3URL: http://www.ti.com/lit/ml/mpds361/mpds361.pdf
footprint PW0016A_N (SOP, 16-Leads, Body 5.1x4.5mm, Pitch 0.65mm, IPC Medium Density)
footprint PW0016A_M (SOP, 16-Leads, Body 5.1x4.5mm, Pitch 0.65mm, IPC Low Density)
footprint PW0016A_L (SOP, 16-Leads, Body 5.1x4.5mm, Pitch 0.65mm, IPC High Density)
pins: 1 QB (hiz), 2 QC (hiz), 3 QD (hiz), 4 QE (hiz), 5 QF (hiz), 6 QG (hiz), 7 QH (hiz), 8 GND (power), 9 QH' (out), 10 ~{SRCLR} (in), 11 SRCLK (in), 12 RCLK (in), 13 ~{OE} (in), 14 SER (in), 15 QA (hiz), 16 VCC (power)

## SN74AHC595PWRG4
designator U?
8-Bit Shift Registers With 3-State Output Registers, PW0016A, LARGE T&R; Generic Part Number: SN74AHC595; Manufacturer: Texas Instruments; PartNumber: SN74AHC595PWRG4; Technology Family: AHC; VCC(Min)(V): 2; VCC(Max)(V): 5.5; Voltage(Nom)(V): 3.3, 5; F @ Nom Voltage(Max)(Mhz): 110; ICC @ Nom Voltage(Max)(mA): 0.04; tpd @ Nom Voltage(Max)(ns): 20, 11.4; Output Drive (IOL/IOH)(Max)(mA): 50/-50; Input Type: CMOS; 3-State Output: Yes; Rating: Catalog; Bits: 8; DatasheetVersion: SCLS373J; PackageReference: PW0016A; Output Type: CMOS; Operating Temperature Range(C): -40 to 125; Code_JEDEC: MO-153; ComponentLink1Description: Manufacturer URL; ComponentLink1URL: http://www.ti.com/; ComponentLink2Description: Datasheet; ComponentLink2URL: http://www.ti.com/lit/ds/symlink/sn74ahc595.pdf; ComponentLink3Description: Package Specification; ComponentLink3URL: http://www.ti.com/lit/ml/mpds361/mpds361.pdf
footprint PW0016A_N (SOP, 16-Leads, Body 5.1x4.5mm, Pitch 0.65mm, IPC Medium Density)
footprint PW0016A_M (SOP, 16-Leads, Body 5.1x4.5mm, Pitch 0.65mm, IPC Low Density)
footprint PW0016A_L (SOP, 16-Leads, Body 5.1x4.5mm, Pitch 0.65mm, IPC High Density)
pins: 1 QB (hiz), 2 QC (hiz), 3 QD (hiz), 4 QE (hiz), 5 QF (hiz), 6 QG (hiz), 7 QH (hiz), 8 GND (power), 9 QH' (out), 10 ~{SRCLR} (in), 11 SRCLK (in), 12 RCLK (in), 13 ~{OE} (in), 14 SER (in), 15 QA (hiz), 16 VCC (power)

## SN74AHC595QPWRQ1
designator U?
Automotive Catalog 8-Bit Shift Registers With 3-State Output Registers, PW0016A, LARGE T&R; Generic Part Number: SN74AHC595-Q1; Manufacturer: Texas Instruments; PartNumber: SN74AHC595QPWRQ1; Technology Family: AHC; VCC(Min)(V): 2; VCC(Max)(V): 5.5; No. of Outputs: 9; Voltage(Nom)(V): 3.3, 5; F @ Nom Voltage(Max)(Mhz): 110; ICC @ Nom Voltage(Max)(mA): 0.04; tpd @ Nom Voltage(Max)(ns): 20, 13.5; Output Drive (IOL/IOH)(Max)(mA): 50/-50; Input Type: CMOS; 3-State Output: Yes; Bits: 8; DatasheetVersion: SCLS537B; PackageReference: PW0016A; Output Type: CMOS; Rating: Automotive; Operating Temperature Range(C): -40 to 125; Code_JEDEC: MO-153; ComponentLink1Description: Manufacturer URL; ComponentLink1URL: http://www.ti.com/; ComponentLink2Description: Datasheet; ComponentLink2URL: http://www.ti.com/lit/ds/symlink/sn74ahc595-q1.pdf; ComponentLink3Description: Package Specification; ComponentLink3URL: http://www.ti.com/lit/ml/mpds361/mpds361.pdf
footprint PW0016A_N (SOP, 16-Leads, Body 5.1x4.5mm, Pitch 0.65mm, IPC Medium Density)
footprint PW0016A_M (SOP, 16-Leads, Body 5.1x4.5mm, Pitch 0.65mm, IPC Low Density)
footprint PW0016A_L (SOP, 16-Leads, Body 5.1x4.5mm, Pitch 0.65mm, IPC High Density)
pins: 1 QB (hiz), 2 QC (hiz), 3 QD (hiz), 4 QE (hiz), 5 QF (hiz), 6 QG (hiz), 7 QH (hiz), 8 GND (power), 9 QH' (out), 10 ~{SRCLR} (in), 11 SRCLK (in), 12 RCLK (in), 13 ~{OE} (in), 14 SER (in), 15 QA (hiz), 16 VCC (power)

## SN74AHC16373DGGR
designator U?
16-Bit Transparent D-Type Latches With 3-State Outputs, DGG0048A, LARGE T&R; Generic Part Number: SN74AHC16373; Manufacturer: Texas Instruments; PartNumber: SN74AHC16373DGGR; VCC(Min)(V): 2; VCC(Max)(V): 5.5; Output Type: CMOS; Logic: True; Static Current: 0.04; Bits(#): 16; F @ Nom Voltage(Max)(Mhz): 110; Rating: Catalog; Technology Family: AHC; Voltage(Nom)(V): 3.3,5; Schmitt Trigger: No; Output Drive (IOL/IOH)(Max)(mA): 50/-50; Output Logic: Non-inverted; 3-State Output: Yes; tpd @ Nom Voltage(Max)(ns): 16,10.5; DatasheetVersion: SCLS329G; PackageReference: DGG0048A; Supplier 1: Digi-Key; Supplier Part Number 1: 296-4566-2-ND; Supplier 2: Digi-Key; Supplier Part Number 2: 296-4566-1-ND; Supplier 3: Digi-Key; Supplier Part Number 3: 296-4566-6-ND; Supplier 4: Newark; Supplier Part Number 4: 76C1801; Supplier 5: Mouser; Supplier Part Number 5: 595-SN74AHC16373DGGR; ICC @ Nom Voltage(Max)(mA): 0.04; Input Type: CMOS; Operating Temperature Range(C): -40 to 85; Code_JEDEC: MO-153; ComponentLink1Description: Manufacturer URL; ComponentLink1URL: http://www.ti.com/; ComponentLink2Description: Datasheet; ComponentLink2URL: http://www.ti.com/lit/ds/symlink/sn74ahc16373.pdf; ComponentLink3Description: Package Specification; ComponentLink3URL: http://www.ti.com/lit/ml/mtss003d/mtss003d.pdf
footprint DGG0048A_N (TSSOP, 48-Leads, Body 12.6x6.2mm, Pitch 0.5mm, IPC Medium Density)
footprint DGG0048A_M (TSSOP, 48-Leads, Body 12.6x6.2mm, Pitch 0.5mm, IPC Low Density)
footprint DGG0048A_L (TSSOP, 48-Leads, Body 12.6x6.2mm, Pitch 0.5mm, IPC High Density)
part A pins: 1 1~{OE} (in) "Output Enable 1", 2 1Q1 (hiz) "1Q1 Output", 3 1Q2 (hiz) "1Q2 Output", 5 1Q3 (hiz) "1Q3 Output", 6 1Q4 (hiz) "1Q4 Output", 8 1Q5 (hiz) "1Q5 Output", 9 1Q6 (hiz) "1Q6 Output", 11 1Q7 (hiz) "1Q7 Output", 12 1Q8 (hiz) "1Q8 Output", 37 1D8 (in) "1D8 Input", 38 1D7 (in) "1D7 Input", 40 1D6 (in) "1D6 Input", 41 1D5 (in) "1D5 Input", 43 1D4 (in) "1D4 Input", 44 1D3 (in) "1D3 Input", 46 1D2 (in) "1D2 Input", 47 1D1 (in) "1D1 Input", 48 1LE (in) "Latch Enable 1"
part B pins: 13 2Q1 (hiz) "2Q1 Output", 14 2Q2 (hiz) "2Q2 Output", 16 2Q3 (hiz) "2Q3 Output", 17 2Q4 (hiz) "2Q4 Output", 19 2Q5 (hiz) "Output", 20 2Q6 (hiz) "2Q6 Output", 22 2Q7 (hiz) "2Q7 Output", 23 2Q8 (hiz) "2Q8 Output", 24 2~{OE} (in) "Output Enable 2", 25 2LE (in) "2LE Input", 26 2D8 (in) "2D8 Input", 27 2D7 (in) "2D7 Input", 29 2D6 (in) "2D6 Input", 30 2D5 (in) "2D5 Input", 32 2D4 (in) "2D4 Input", 33 2D3 (in) "2D3 Input", 35 2D2 (in) "2D2 Input", 36 2D1 (in) "2D1 Input"
part C pins: 4 GND (power) "Ground Pin", 7 VCC (power) "Power Pin", 10 GND (power) "Ground Pin", 15 GND (power) "Ground Pin", 18 VCC (power) "Power Pin", 21 GND (power) "Ground Pin", 28 GND (power) "Ground Pin", 31 VCC (power) "Power Pin", 34 GND (power) "Ground Pin", 39 GND (power) "Ground Pin", 42 VCC (power) "Power Pin", 45 GND (power) "Ground Pin"

## SN74AHC16373DGVR
designator U?
16-Bit Transparent D-Type Latches With 3-State Outputs, DGV0048A, LARGE T&R; Generic Part Number: SN74AHC16373; Manufacturer: Texas Instruments; PartNumber: SN74AHC16373DGVR; VCC(Min)(V): 2; VCC(Max)(V): 5.5; Output Type: CMOS; Logic: True; Static Current: 0.04; Bits(#): 16; F @ Nom Voltage(Max)(Mhz): 110; Rating: Catalog; Technology Family: AHC; Voltage(Nom)(V): 3.3,5; Schmitt Trigger: No; Output Drive (IOL/IOH)(Max)(mA): 50/-50; Output Logic: Non-inverted; 3-State Output: Yes; tpd @ Nom Voltage(Max)(ns): 16,10.5; DatasheetVersion: SCLS329G; PackageReference: DGV0048A; Supplier 1: Digi-Key; Supplier Part Number 1: 296-4567-2-ND; Supplier 2: Digi-Key; Supplier Part Number 2: 296-4567-1-ND; Supplier 3: Digi-Key; Supplier Part Number 3: 296-4567-6-ND; Supplier 4: Mouser; Supplier Part Number 4: 595-SN74AHC16373DGVR; ICC @ Nom Voltage(Max)(mA): 0.04; Input Type: CMOS; Operating Temperature Range(C): -40 to 85; Code_JEDEC: MO-153; ComponentLink1Description: Manufacturer URL; ComponentLink1URL: http://www.ti.com/; ComponentLink2Description: Datasheet; ComponentLink2URL: http://www.ti.com/lit/ds/symlink/sn74ahc16373.pdf; ComponentLink3Description: Package Specification; ComponentLink3URL: http://www.ti.com/lit/ml/mpds006c/mpds006c.pdf
footprint DGV0048A_N (SOP, 48-Leads, Body 4.5x9.8mm, Pitch 0.4mm, IPC Medium Density)
footprint DGV0048A_M (SOP, 48-Leads, Body 4.5x9.8mm, Pitch 0.4mm, IPC Low Density)
footprint DGV0048A_L (SOP, 48-Leads, Body 4.5x9.8mm, Pitch 0.4mm, IPC High Density)
part A pins: 1 1~{OE} (in) "Output Enable 1", 2 1Q1 (hiz) "1Q1 Output", 3 1Q2 (hiz) "1Q2 Output", 5 1Q3 (hiz) "1Q3 Output", 6 1Q4 (hiz) "1Q4 Output", 8 1Q5 (hiz) "1Q5 Output", 9 1Q6 (hiz) "1Q6 Output", 11 1Q7 (hiz) "1Q7 Output", 12 1Q8 (hiz) "1Q8 Output", 37 1D8 (in) "1D8 Input", 38 1D7 (in) "1D7 Input", 40 1D6 (in) "1D6 Input", 41 1D5 (in) "1D5 Input", 43 1D4 (in) "1D4 Input", 44 1D3 (in) "1D3 Input", 46 1D2 (in) "1D2 Input", 47 1D1 (in) "1D1 Input", 48 1LE (in) "Latch Enable 1"
part B pins: 13 2Q1 (hiz) "2Q1 Output", 14 2Q2 (hiz) "2Q2 Output", 16 2Q3 (hiz) "2Q3 Output", 17 2Q4 (hiz) "2Q4 Output", 19 2Q5 (hiz) "Output", 20 2Q6 (hiz) "2Q6 Output", 22 2Q7 (hiz) "2Q7 Output", 23 2Q8 (hiz) "2Q8 Output", 24 2~{OE} (in) "Output Enable 2", 25 2LE (in) "2LE Input", 26 2D8 (in) "2D8 Input", 27 2D7 (in) "2D7 Input", 29 2D6 (in) "2D6 Input", 30 2D5 (in) "2D5 Input", 32 2D4 (in) "2D4 Input", 33 2D3 (in) "2D3 Input", 35 2D2 (in) "2D2 Input", 36 2D1 (in) "2D1 Input"
part C pins: 4 GND (power) "Ground Pin", 7 VCC (power) "Power Pin", 10 GND (power) "Ground Pin", 15 GND (power) "Ground Pin", 18 VCC (power) "Power Pin", 21 GND (power) "Ground Pin", 28 GND (power) "Ground Pin", 31 VCC (power) "Power Pin", 34 GND (power) "Ground Pin", 39 GND (power) "Ground Pin", 42 VCC (power) "Power Pin", 45 GND (power) "Ground Pin"

## SN74AHC16373DL
designator U?
16-Bit Transparent D-Type Latches With 3-State Outputs, DL0048A, TUBE; Generic Part Number: SN74AHC16373; Manufacturer: Texas Instruments; PartNumber: SN74AHC16373DL; VCC(Min)(V): 2; VCC(Max)(V): 5.5; Output Type: CMOS; Logic: True; Static Current: 0.04; Bits(#): 16; F @ Nom Voltage(Max)(Mhz): 110; Rating: Catalog; Technology Family: AHC; Voltage(Nom)(V): 3.3,5; Schmitt Trigger: No; Output Drive (IOL/IOH)(Max)(mA): 50/-50; Output Logic: Non-inverted; 3-State Output: Yes; tpd @ Nom Voltage(Max)(ns): 16,10.5; DatasheetVersion: SCLS329G; PackageReference: DL0048A; Supplier 1: Digi-Key; Supplier Part Number 1: 296-4568-5-ND; Supplier 2: Farnell; Supplier Part Number 2: 1740068; Supplier 3: Newark; Supplier Part Number 3: 76C1802; Supplier 4: Mouser; Supplier Part Number 4: 595-SN74AHC16373DL; ICC @ Nom Voltage(Max)(mA): 0.04; Input Type: CMOS; Operating Temperature Range(C): -40 to 85; Code_JEDEC: MO-118; ComponentLink1Description: Manufacturer URL; ComponentLink1URL: http://www.ti.com/; ComponentLink2Description: Datasheet; ComponentLink2URL: http://www.ti.com/lit/ds/symlink/sn74ahc16373.pdf; ComponentLink3Description: Package Specification; ComponentLink3URL: http://www.ti.com/lit/ml/mpds490/mpds490.pdf
footprint DL0048A_N (SOP, 48-Leads, Body 7.6x16mm, Pitch 0.635mm, IPC Medium Density)
footprint DL0048A_M (SOP, 48-Leads, Body 7.6x16mm, Pitch 0.635mm, IPC Low Density)
footprint DL0048A_L (SOP, 48-Leads, Body 7.6x16mm, Pitch 0.635mm, IPC High Density)
part A pins: 1 1~{OE} (in) "Output Enable 1", 2 1Q1 (hiz) "1Q1 Output", 3 1Q2 (hiz) "1Q2 Output", 5 1Q3 (hiz) "1Q3 Output", 6 1Q4 (hiz) "1Q4 Output", 8 1Q5 (hiz) "1Q5 Output", 9 1Q6 (hiz) "1Q6 Output", 11 1Q7 (hiz) "1Q7 Output", 12 1Q8 (hiz) "1Q8 Output", 37 1D8 (in) "1D8 Input", 38 1D7 (in) "1D7 Input", 40 1D6 (in) "1D6 Input", 41 1D5 (in) "1D5 Input", 43 1D4 (in) "1D4 Input", 44 1D3 (in) "1D3 Input", 46 1D2 (in) "1D2 Input", 47 1D1 (in) "1D1 Input", 48 1LE (in) "Latch Enable 1"
part B pins: 13 2Q1 (hiz) "2Q1 Output", 14 2Q2 (hiz) "2Q2 Output", 16 2Q3 (hiz) "2Q3 Output", 17 2Q4 (hiz) "2Q4 Output", 19 2Q5 (hiz) "Output", 20 2Q6 (hiz) "2Q6 Output", 22 2Q7 (hiz) "2Q7 Output", 23 2Q8 (hiz) "2Q8 Output", 24 2~{OE} (in) "Output Enable 2", 25 2LE (in) "2LE Input", 26 2D8 (in) "2D8 Input", 27 2D7 (in) "2D7 Input", 29 2D6 (in) "2D6 Input", 30 2D5 (in) "2D5 Input", 32 2D4 (in) "2D4 Input", 33 2D3 (in) "2D3 Input", 35 2D2 (in) "2D2 Input", 36 2D1 (in) "2D1 Input"
part C pins: 4 GND (power) "Ground Pin", 7 VCC (power) "Power Pin", 10 GND (power) "Ground Pin", 15 GND (power) "Ground Pin", 18 VCC (power) "Power Pin", 21 GND (power) "Ground Pin", 28 GND (power) "Ground Pin", 31 VCC (power) "Power Pin", 34 GND (power) "Ground Pin", 39 GND (power) "Ground Pin", 42 VCC (power) "Power Pin", 45 GND (power) "Ground Pin"

## SN74AHC16373DLR
designator U?
16-Bit Transparent D-Type Latches With 3-State Outputs, DL0048A, LARGE T&R; Generic Part Number: SN74AHC16373; Manufacturer: Texas Instruments; PartNumber: SN74AHC16373DLR; VCC(Min)(V): 2; VCC(Max)(V): 5.5; Output Type: CMOS; Logic: True; Static Current: 0.04; Bits(#): 16; F @ Nom Voltage(Max)(Mhz): 110; Rating: Catalog; Technology Family: AHC; Voltage(Nom)(V): 3.3,5; Schmitt Trigger: No; Output Drive (IOL/IOH)(Max)(mA): 50/-50; Output Logic: Non-inverted; 3-State Output: Yes; tpd @ Nom Voltage(Max)(ns): 16,10.5; DatasheetVersion: SCLS329G; PackageReference: DL0048A; Supplier 1: Digi-Key; Supplier Part Number 1: 296-4568-2-ND; Supplier 2: Digi-Key; Supplier Part Number 2: 296-4568-1-ND; Supplier 3: Digi-Key; Supplier Part Number 3: 296-4568-6-ND; Supplier 4: Newark; Supplier Part Number 4: 76C1803; Supplier 5: Mouser; Supplier Part Number 5: 595-SN74AHC16373DLR; ICC @ Nom Voltage(Max)(mA): 0.04; Input Type: CMOS; Operating Temperature Range(C): -40 to 85; Code_JEDEC: MO-118; ComponentLink1Description: Manufacturer URL; ComponentLink1URL: http://www.ti.com/; ComponentLink2Description: Datasheet; ComponentLink2URL: http://www.ti.com/lit/ds/symlink/sn74ahc16373.pdf; ComponentLink3Description: Package Specification; ComponentLink3URL: http://www.ti.com/lit/ml/mpds490/mpds490.pdf
footprint DL0048A_N (SOP, 48-Leads, Body 7.6x16mm, Pitch 0.635mm, IPC Medium Density)
footprint DL0048A_M (SOP, 48-Leads, Body 7.6x16mm, Pitch 0.635mm, IPC Low Density)
footprint DL0048A_L (SOP, 48-Leads, Body 7.6x16mm, Pitch 0.635mm, IPC High Density)
part A pins: 1 1~{OE} (in) "Output Enable 1", 2 1Q1 (hiz) "1Q1 Output", 3 1Q2 (hiz) "1Q2 Output", 5 1Q3 (hiz) "1Q3 Output", 6 1Q4 (hiz) "1Q4 Output", 8 1Q5 (hiz) "1Q5 Output", 9 1Q6 (hiz) "1Q6 Output", 11 1Q7 (hiz) "1Q7 Output", 12 1Q8 (hiz) "1Q8 Output", 37 1D8 (in) "1D8 Input", 38 1D7 (in) "1D7 Input", 40 1D6 (in) "1D6 Input", 41 1D5 (in) "1D5 Input", 43 1D4 (in) "1D4 Input", 44 1D3 (in) "1D3 Input", 46 1D2 (in) "1D2 Input", 47 1D1 (in) "1D1 Input", 48 1LE (in) "Latch Enable 1"
part B pins: 13 2Q1 (hiz) "2Q1 Output", 14 2Q2 (hiz) "2Q2 Output", 16 2Q3 (hiz) "2Q3 Output", 17 2Q4 (hiz) "2Q4 Output", 19 2Q5 (hiz) "Output", 20 2Q6 (hiz) "2Q6 Output", 22 2Q7 (hiz) "2Q7 Output", 23 2Q8 (hiz) "2Q8 Output", 24 2~{OE} (in) "Output Enable 2", 25 2LE (in) "2LE Input", 26 2D8 (in) "2D8 Input", 27 2D7 (in) "2D7 Input", 29 2D6 (in) "2D6 Input", 30 2D5 (in) "2D5 Input", 32 2D4 (in) "2D4 Input", 33 2D3 (in) "2D3 Input", 35 2D2 (in) "2D2 Input", 36 2D1 (in) "2D1 Input"
part C pins: 4 GND (power) "Ground Pin", 7 VCC (power) "Power Pin", 10 GND (power) "Ground Pin", 15 GND (power) "Ground Pin", 18 VCC (power) "Power Pin", 21 GND (power) "Ground Pin", 28 GND (power) "Ground Pin", 31 VCC (power) "Power Pin", 34 GND (power) "Ground Pin", 39 GND (power) "Ground Pin", 42 VCC (power) "Power Pin", 45 GND (power) "Ground Pin"

## SN74AHC16374DGGR
designator U?
16-Bit Edge-Triggered D-Type Flip-Flops With 3-State Outputs, DGG0048A, LARGE T&R; Generic Part Number: SN74AHC16374; Manufacturer: Texas Instruments; PartNumber: SN74AHC16374DGGR; VCC(Min)(V): 2; VCC(Max)(V): 5.5; Output Type: CMOS; ICC @ Nom Voltage(Max)(mA): 0.04; Bits(#): 16; F @ Nom Voltage(Max)(Mhz): 110; Rating: Catalog; Technology Family: AHC; Voltage(Nom)(V): 3.3,5; Schmitt Trigger: No; Output Drive (IOL/IOH)(Max)(mA): 50/-50; Output Logic: Non-inverted; 3-State Output: Yes; tpd @ Nom Voltage(Max)(ns): 18.5,11.5; DatasheetVersion: SCLS330G; PackageReference: DGG0048A; Supplier 1: Digi-Key; Supplier Part Number 1: 296-4569-2-ND; Supplier 2: Digi-Key; Supplier Part Number 2: 296-4569-1-ND; Supplier 3: Digi-Key; Supplier Part Number 3: 296-4569-6-ND; Supplier 4: Mouser; Supplier Part Number 4: 595-SN74AHC16374DGGR; Input Type: CMOS; Operating Temperature Range(C): -40 to 85; Code_JEDEC: MO-153; ComponentLink1Description: Manufacturer URL; ComponentLink1URL: http://www.ti.com/; ComponentLink2Description: Datasheet; ComponentLink2URL: http://www.ti.com/lit/ds/symlink/sn74ahc16374.pdf; ComponentLink3Description: Package Specification; ComponentLink3URL: http://www.ti.com/lit/ml/mtss003d/mtss003d.pdf
footprint DGG0048A_N (TSSOP, 48-Leads, Body 12.6x6.2mm, Pitch 0.5mm, IPC Medium Density)
footprint DGG0048A_M (TSSOP, 48-Leads, Body 12.6x6.2mm, Pitch 0.5mm, IPC Low Density)
footprint DGG0048A_L (TSSOP, 48-Leads, Body 12.6x6.2mm, Pitch 0.5mm, IPC High Density)
part A pins: 1 1OE (in), 2 1Q1 (hiz), 3 1Q2 (hiz), 5 1Q3 (hiz), 6 1Q4 (hiz), 8 1Q5 (hiz), 9 1Q6 (hiz), 11 1Q7 (hiz), 12 1Q8 (hiz), 37 1D8 (in), 38 1D7 (in), 40 1D6 (in), 41 1D5 (in), 43 1D4 (in), 44 1D3 (in), 46 1D2 (in), 47 1D1 (in), 48 1CLK (in)
part B pins: 13 2Q1 (hiz), 14 2Q2 (hiz), 16 2Q3 (hiz), 17 2Q4 (hiz), 19 2Q5 (hiz), 20 2Q6 (hiz), 22 2Q7 (hiz), 23 2Q8 (hiz), 24 2OE (in), 25 2CLK (in), 26 2D8 (in), 27 2D7 (in), 29 2D6 (in), 30 2D5 (in), 32 2D4 (in), 33 2D3 (in), 35 2D2 (in), 36 2D1 (in)
part C pins: 4 GND (power), 7 VCC (power), 10 GND (power), 15 GND (power), 18 VCC (power), 21 GND (power), 28 GND (power), 31 VCC (power), 34 GND (power), 39 GND (power), 42 VCC (power), 45 GND (power)

## SN74AHC16374DGVR
designator U?
16-Bit Edge-Triggered D-Type Flip-Flops With 3-State Outputs, DGV0048A, LARGE T&R; Generic Part Number: SN74AHC16374; Manufacturer: Texas Instruments; PartNumber: SN74AHC16374DGVR; VCC(Min)(V): 2; VCC(Max)(V): 5.5; Output Type: CMOS; ICC @ Nom Voltage(Max)(mA): 0.04; Bits(#): 16; F @ Nom Voltage(Max)(Mhz): 110; Rating: Catalog; Technology Family: AHC; Voltage(Nom)(V): 3.3,5; Schmitt Trigger: No; Output Drive (IOL/IOH)(Max)(mA): 50/-50; Output Logic: Non-inverted; 3-State Output: Yes; tpd @ Nom Voltage(Max)(ns): 18.5,11.5; DatasheetVersion: SCLS330G; PackageReference: DGV0048A; Supplier 1: Digi-Key; Supplier Part Number 1: 296-4570-2-ND; Supplier 2: Digi-Key; Supplier Part Number 2: 296-4570-1-ND; Supplier 3: Digi-Key; Supplier Part Number 3: 296-4570-6-ND; Supplier 4: Mouser; Supplier Part Number 4: 595-SN74AHC16374DGVR; Input Type: CMOS; Operating Temperature Range(C): -40 to 85; Code_JEDEC: MO-153; ComponentLink1Description: Manufacturer URL; ComponentLink1URL: http://www.ti.com/; ComponentLink2Description: Datasheet; ComponentLink2URL: http://www.ti.com/lit/ds/symlink/sn74ahc16374.pdf; ComponentLink3Description: Package Specification; ComponentLink3URL: http://www.ti.com/lit/ml/mpds006c/mpds006c.pdf
footprint DGV0048A_N (SOP, 48-Leads, Body 4.5x9.8mm, Pitch 0.4mm, IPC Medium Density)
footprint DGV0048A_M (SOP, 48-Leads, Body 4.5x9.8mm, Pitch 0.4mm, IPC Low Density)
footprint DGV0048A_L (SOP, 48-Leads, Body 4.5x9.8mm, Pitch 0.4mm, IPC High Density)
part A pins: 1 1OE (in), 2 1Q1 (hiz), 3 1Q2 (hiz), 5 1Q3 (hiz), 6 1Q4 (hiz), 8 1Q5 (hiz), 9 1Q6 (hiz), 11 1Q7 (hiz), 12 1Q8 (hiz), 37 1D8 (in), 38 1D7 (in), 40 1D6 (in), 41 1D5 (in), 43 1D4 (in), 44 1D3 (in), 46 1D2 (in), 47 1D1 (in), 48 1CLK (in)
part B pins: 13 2Q1 (hiz), 14 2Q2 (hiz), 16 2Q3 (hiz), 17 2Q4 (hiz), 19 2Q5 (hiz), 20 2Q6 (hiz), 22 2Q7 (hiz), 23 2Q8 (hiz), 24 2OE (in), 25 2CLK (in), 26 2D8 (in), 27 2D7 (in), 29 2D6 (in), 30 2D5 (in), 32 2D4 (in), 33 2D3 (in), 35 2D2 (in), 36 2D1 (in)
part C pins: 4 GND (power), 7 VCC (power), 10 GND (power), 15 GND (power), 18 VCC (power), 21 GND (power), 28 GND (power), 31 VCC (power), 34 GND (power), 39 GND (power), 42 VCC (power), 45 GND (power)

## SN74AHC16374DL
designator U?
16-Bit Edge-Triggered D-Type Flip-Flops With 3-State Outputs, DL0048A, TUBE; Generic Part Number: SN74AHC16374; Manufacturer: Texas Instruments; PartNumber: SN74AHC16374DL; VCC(Min)(V): 2; VCC(Max)(V): 5.5; Output Type: CMOS; ICC @ Nom Voltage(Max)(mA): 0.04; Bits(#): 16; F @ Nom Voltage(Max)(Mhz): 110; Rating: Catalog; Technology Family: AHC; Voltage(Nom)(V): 3.3,5; Schmitt Trigger: No; Output Drive (IOL/IOH)(Max)(mA): 50/-50; Output Logic: Non-inverted; 3-State Output: Yes; tpd @ Nom Voltage(Max)(ns): 18.5,11.5; DatasheetVersion: SCLS330G; PackageReference: DL0048A; Supplier 1: Digi-Key; Supplier Part Number 1: 296-4571-5-ND; Supplier 2: Farnell; Supplier Part Number 2: 1752866; Supplier 3: Mouser; Supplier Part Number 3: 595-SN74AHC16374DL; Input Type: CMOS; Operating Temperature Range(C): -40 to 85; Code_JEDEC: MO-118; ComponentLink1Description: Manufacturer URL; ComponentLink1URL: http://www.ti.com/; ComponentLink2Description: Datasheet; ComponentLink2URL: http://www.ti.com/lit/ds/symlink/sn74ahc16374.pdf; ComponentLink3Description: Package Specification; ComponentLink3URL: http://www.ti.com/lit/ml/mpds490/mpds490.pdf
footprint DL0048A_N (SOP, 48-Leads, Body 7.6x16mm, Pitch 0.635mm, IPC Medium Density)
footprint DL0048A_M (SOP, 48-Leads, Body 7.6x16mm, Pitch 0.635mm, IPC Low Density)
footprint DL0048A_L (SOP, 48-Leads, Body 7.6x16mm, Pitch 0.635mm, IPC High Density)
part A pins: 1 1OE (in), 2 1Q1 (hiz), 3 1Q2 (hiz), 5 1Q3 (hiz), 6 1Q4 (hiz), 8 1Q5 (hiz), 9 1Q6 (hiz), 11 1Q7 (hiz), 12 1Q8 (hiz), 37 1D8 (in), 38 1D7 (in), 40 1D6 (in), 41 1D5 (in), 43 1D4 (in), 44 1D3 (in), 46 1D2 (in), 47 1D1 (in), 48 1CLK (in)
part B pins: 13 2Q1 (hiz), 14 2Q2 (hiz), 16 2Q3 (hiz), 17 2Q4 (hiz), 19 2Q5 (hiz), 20 2Q6 (hiz), 22 2Q7 (hiz), 23 2Q8 (hiz), 24 2OE (in), 25 2CLK (in), 26 2D8 (in), 27 2D7 (in), 29 2D6 (in), 30 2D5 (in), 32 2D4 (in), 33 2D3 (in), 35 2D2 (in), 36 2D1 (in)
part C pins: 4 GND (power), 7 VCC (power), 10 GND (power), 15 GND (power), 18 VCC (power), 21 GND (power), 28 GND (power), 31 VCC (power), 34 GND (power), 39 GND (power), 42 VCC (power), 45 GND (power)

## SN74AHC16374DLR
designator U?
16-Bit Edge-Triggered D-Type Flip-Flops With 3-State Outputs, DL0048A, LARGE T&R; Generic Part Number: SN74AHC16374; Manufacturer: Texas Instruments; PartNumber: SN74AHC16374DLR; VCC(Min)(V): 2; VCC(Max)(V): 5.5; Output Type: CMOS; ICC @ Nom Voltage(Max)(mA): 0.04; Bits(#): 16; F @ Nom Voltage(Max)(Mhz): 110; Rating: Catalog; Technology Family: AHC; Voltage(Nom)(V): 3.3,5; Schmitt Trigger: No; Output Drive (IOL/IOH)(Max)(mA): 50/-50; Output Logic: Non-inverted; 3-State Output: Yes; tpd @ Nom Voltage(Max)(ns): 18.5,11.5; DatasheetVersion: SCLS330G; PackageReference: DL0048A; Supplier 1: Digi-Key; Supplier Part Number 1: SN74AHC16374DLR-ND; Supplier 2: Mouser; Supplier Part Number 2: 595-SN74AHC16374DLR; Input Type: CMOS; Operating Temperature Range(C): -40 to 85; Code_JEDEC: MO-118; ComponentLink1Description: Manufacturer URL; ComponentLink1URL: http://www.ti.com/; ComponentLink2Description: Datasheet; ComponentLink2URL: http://www.ti.com/lit/ds/symlink/sn74ahc16374.pdf; ComponentLink3Description: Package Specification; ComponentLink3URL: http://www.ti.com/lit/ml/mpds490/mpds490.pdf
footprint DL0048A_N (SOP, 48-Leads, Body 7.6x16mm, Pitch 0.635mm, IPC Medium Density)
footprint DL0048A_M (SOP, 48-Leads, Body 7.6x16mm, Pitch 0.635mm, IPC Low Density)
footprint DL0048A_L (SOP, 48-Leads, Body 7.6x16mm, Pitch 0.635mm, IPC High Density)
part A pins: 1 1OE (in), 2 1Q1 (hiz), 3 1Q2 (hiz), 5 1Q3 (hiz), 6 1Q4 (hiz), 8 1Q5 (hiz), 9 1Q6 (hiz), 11 1Q7 (hiz), 12 1Q8 (hiz), 37 1D8 (in), 38 1D7 (in), 40 1D6 (in), 41 1D5 (in), 43 1D4 (in), 44 1D3 (in), 46 1D2 (in), 47 1D1 (in), 48 1CLK (in)
part B pins: 13 2Q1 (hiz), 14 2Q2 (hiz), 16 2Q3 (hiz), 17 2Q4 (hiz), 19 2Q5 (hiz), 20 2Q6 (hiz), 22 2Q7 (hiz), 23 2Q8 (hiz), 24 2OE (in), 25 2CLK (in), 26 2D8 (in), 27 2D7 (in), 29 2D6 (in), 30 2D5 (in), 32 2D4 (in), 33 2D3 (in), 35 2D2 (in), 36 2D1 (in)
part C pins: 4 GND (power), 7 VCC (power), 10 GND (power), 15 GND (power), 18 VCC (power), 21 GND (power), 28 GND (power), 31 VCC (power), 34 GND (power), 39 GND (power), 42 VCC (power), 45 GND (power)